# Altium schematic symbol library CD4052BM.SchLib: 1 symbol
Pins are listed as number, name and electrical type; pins without a type are passive.

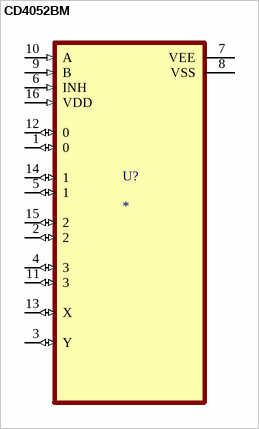
[diagram p0: symbol CD4052BM]

## CD4052BM
designator U?
MF: {'manufacturer': u'Texas Instruments'}; MP: CD4052BM; Package: None; Availability: Unavailable; Value: *; Price: None
footprint SOIC127P600X175-16N
pins: 1 0 (io), 2 (io), 3 Y (io), 4 3 (io), 5 1 (io), 6 INH (in), 7 VEE (power), 8 VSS (power), 9 B (in), 10 A (in), 11 3 (io), 12 0 (io), 13 X (io), 14 1 (io), 15 2 (io), 16 VDD (in)